# EAGLE library part LTC3859 (library PowerProducts)
LT-Spice library generated with : ltspice.ulp from: D:/Program Files (x86)/LTC/LTspiceIV/lib/sym/PowerProducts/LTC3860*.asy at 07.10.2012 18:41:39
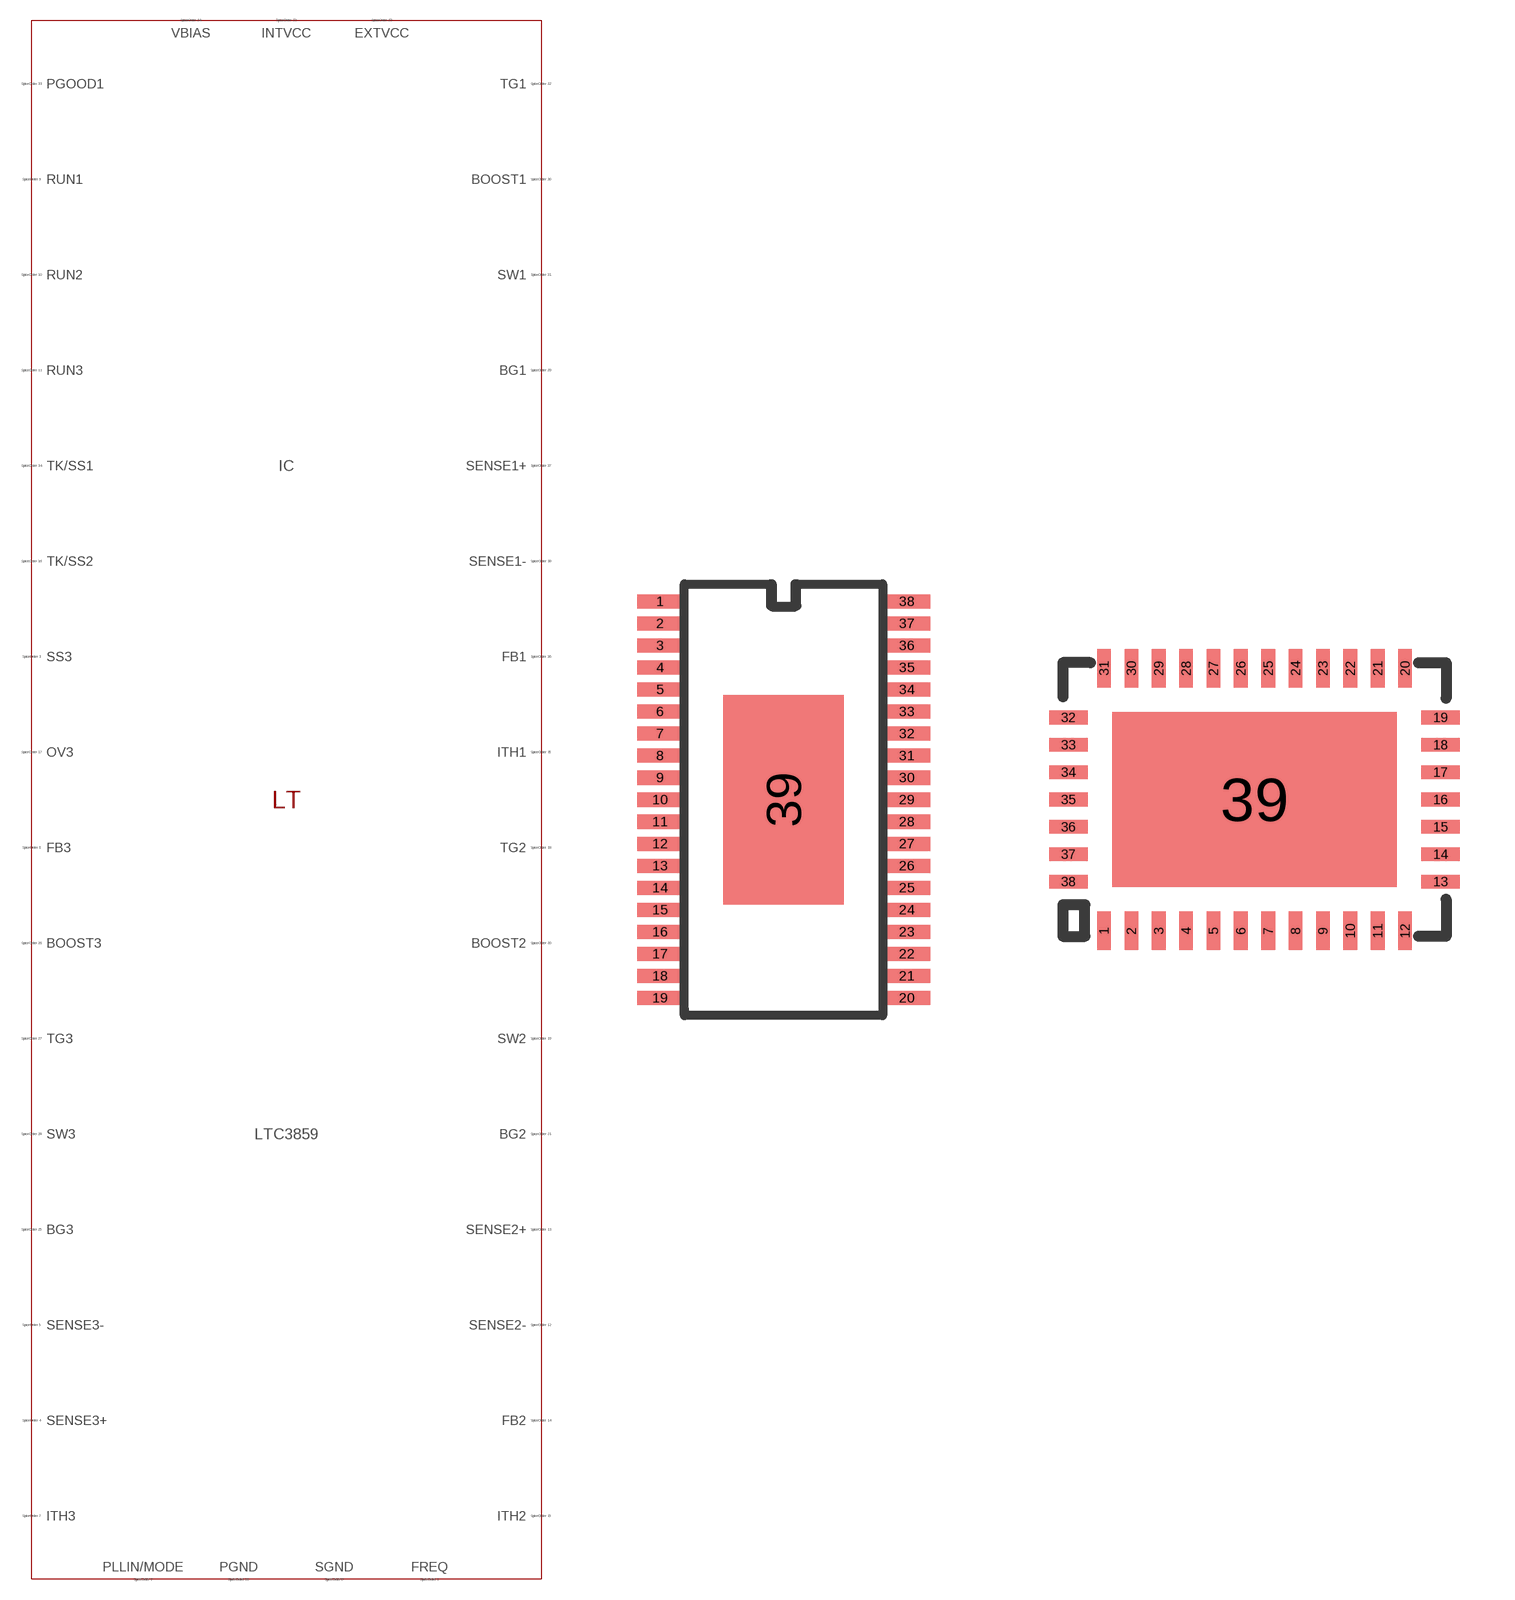
[diagram p378: symbol with the pads of TSSOP38AA(FE); footprints TSSOP38AA(FE), QFN38(UHF)]

Designator prefix IC

## LTC3859 (SPICEMODEL: LTC3859.sub; SPICEPREFIX: X; VALUE2: LTC3859)  [TSSOP38AA(FE)]
1  ITH1  pas
2  FB1  pas
3  SENSE1+  pas
4  SENSE1-  pas
5  FREQ  pas
6  PLLIN/MODE  pas
7  SS3  pas
8  SENSE3+  pas
9  SENSE3-  pas
10  FB3  pas
11  ITH3  pas
12  SGND  pas
13  RUN1  pas
14  RUN2  pas
15  RUN3  pas
16  SENSE2-  pas
17  SENSE2+  pas
18  FB2  pas
19  ITH2  pas
20  TK/SS2  pas
21  OV3  pas
22  TG2  pas
23  SW2  pas
24  BOOST2  pas
25  BG2  pas
26  INTVCC  pas
27  EXTVCC  pas
28  VBIAS  pas
29  BG3  pas
30  BOOST3  pas
31  TG3  pas
32  SW3  pas
33  BG1  pas
34  BOOST1  pas
35  SW1  pas
36  TG1  pas
37  PGOOD1  pas
38  TK/SS1  pas
39  PGND  pas

## LTC3859UHF (SPICEMODEL: LTC3859.sub; SPICEPREFIX: X; VALUE2: LTC3859)  [QFN38(UHF)]
1  FREQ  pas
2  PLLIN/MODE  pas
3  SS3  pas
4  SENSE3+  pas
5  SENSE3-  pas
6  FB3  pas
7  ITH3  pas
8  SGND  pas
9  RUN1  pas
10  RUN2  pas
11  RUN3  pas
12  SENSE2-  pas
13  SENSE2+  pas
14  FB2  pas
15  ITH2  pas
16  TK/SS2  pas
17  OV3  pas
18  TG2  pas
19  SW2  pas
20  BOOST2  pas
21  BG2  pas
22  INTVCC  pas
23  EXTVCC  pas
24  VBIAS  pas
25  BG3  pas
26  BOOST3  pas
27  TG3  pas
28  SW3  pas
29  BG1  pas
30  BOOST1  pas
31  SW1  pas
32  TG1  pas
33  PGOOD1  pas
34  TK/SS1  pas
35  ITH1  pas
36  FB1  pas
37  SENSE1+  pas
38  SENSE1-  pas
39  PGND  pas

## Footprint TSSOP38AA(FE) (pad centres in mm)
Package generated from: TSSOP38AA(FE).asc (!PADS-POWERPCB-V9.3-BASIC! DESIGN DATABASE ASCII FILE 1.0) with :import-pads-powerpcb-v5.ulp Version 1.0.1 at 04.10.2012 14:11:40
smd 1.575 x 0.48: 1 -4.2,6.75; 2 -4.2,6; 3 -4.2,5.25; 4 -4.2,4.5; 5 -4.2,3.75; 6 -4.2,3; 7 -4.2,2.25; 8 -4.2,1.5; 9 -4.2,0.75; 10 -4.2,0; 11 -4.2,-0.75; 12 -4.2,-1.5; 13 -4.2,-2.25; 14 -4.2,-3; 15 -4.2,-3.75; 16 -4.2,-4.5; 17 -4.2,-5.25; 18 -4.2,-6; 19 -4.2,-6.75; 20 4.2,-6.75; 21 4.2,-6; 22 4.2,-5.25; 23 4.2,-4.5; 24 4.2,-3.75; 25 4.2,-3; 26 4.2,-2.25; 27 4.2,-1.5; 28 4.2,-0.75; 29 4.2,0; 30 4.2,0.75; 31 4.2,1.5; 32 4.2,2.25; 33 4.2,3; 34 4.2,3.75; 35 4.2,4.5; 36 4.2,5.25; 37 4.2,6; 38 4.2,6.75
smd 4.11 x 7.125: 39 0,0

## Footprint QFN38(UHF) (pad centres in mm)
Package generated from: QFN38(UHF).asc (!PADS-POWERPCB-V5.0-BASIC! DESIGN DATABASE ASCII FILE 1.0) with :import-pads-powerpcb-v5.ulp Version 1.0.1 at 04.10.2012 14:11:28
smd 0.375 x 1.05: 1 -4.125,-3.6; 2 -3.375,-3.6; 3 -2.625,-3.6; 4 -1.875,-3.6; 5 -1.125,-3.6; 6 -0.375,-3.6; 7 0.375,-3.6; 8 1.125,-3.6; 9 1.875,-3.6; 10 2.625,-3.6; 11 3.375,-3.6; 12 4.125,-3.6; 20 4.125,3.6; 21 3.375,3.6; 22 2.625,3.6; 23 1.875,3.6; 24 1.125,3.6; 25 0.375,3.6; 26 -0.375,3.6; 27 -1.125,3.6; 28 -1.875,3.6; 29 -2.625,3.6; 30 -3.375,3.6; 31 -4.125,3.6
smd 1.05 x 0.375: 13 5.1,-2.25; 14 5.1,-1.5; 15 5.1,-0.75; 16 5.1,0; 17 5.1,0.75; 18 5.1,1.5; 19 5.1,2.25; 32 -5.1,2.25; 33 -5.1,1.5; 34 -5.1,0.75; 35 -5.1,0; 36 -5.1,-0.75; 37 -5.1,-1.5; 38 -5.1,-2.25
smd 7.8 x 4.8: 39 0,0